# EAGLE library part FT232RX (library PiB_ic_bridge)
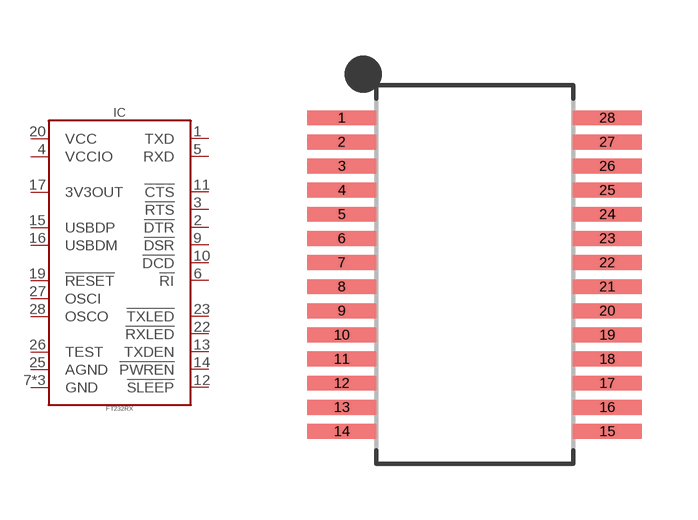
[diagram p2: symbol with the pads of SOP65P780X200-28; footprint SOP65P780X200-28]

Designator prefix IC

## FT232RX_FT232RL_SSOP-28 (DATASHEET: https://www.ftdichip.com/Support/Documents/DataSheets/ICs/DS_FT232R.pdf; DIST: Digikey; DISTLINK: https://www.digikey.com/products/en?keywords=768-1007-1-ND; DISTPN: 768-1007-1-ND; MFR: FTDI, Future Technology Devices International Ltd; MPN: FT232RL-REEL; VALUE: FT232RL)  [SOP65P780X200-28]
1  TXD
2  !DTR
3  !RTS
4  VCCIO
5  RXD
6  !RI
7  GND
9  !DSR
10  !DCD
11  !CTS
12  !SLEEP
13  TXDEN
14  !PWREN
15  USBDP
16  USBDM
17  3V3OUT
18  GND
19  !RESET
20  VCC
21  GND
22  !RXLED
23  !TXLED
25  AGND
26  TEST
27  OSCI
28  OSCO

## Footprint SOP65P780X200-28 (pad centres in mm)
28-SOP, 0.65 mm pitch, 7.80 mm span, 10.20 X 5.30 X 2.00 mm body 28-pin SOP package with 0.65 mm pitch, 7.80 mm span with body size 10.20 X 5.30 X 2.00 mm
smd 1.862 x 0.4: 1 -3.575,4.225; 2 -3.575,3.575; 3 -3.575,2.925; 4 -3.575,2.275; 5 -3.575,1.625; 6 -3.575,0.975; 7 -3.575,0.325; 8 -3.575,-0.325; 9 -3.575,-0.975; 10 -3.575,-1.625; 11 -3.575,-2.275; 12 -3.575,-2.925; 13 -3.575,-3.575; 14 -3.575,-4.225; 15 3.575,-4.225; 16 3.575,-3.575; 17 3.575,-2.925; 18 3.575,-2.275; 19 3.575,-1.625; 20 3.575,-0.975; 21 3.575,-0.325; 22 3.575,0.325; 23 3.575,0.975; 24 3.575,1.625; 25 3.575,2.275; 26 3.575,2.925; 27 3.575,3.575; 28 3.575,4.225